# EAGLE library part LTC4415 (library SHC)
The LTC4415 consists of two PowerPath ideal diode circuits within a single package. Each diode in the LTC4415 is capable of supplying a maximum rated output current of 4A from its input supply with typical forward conduction resistance of 50mΩ. The diodes are enabled using level-sensitive enable inputs EN1 and EN2 with opposite polarity to achieve a prioritizer function with minimal quiescent current during diode-OR implementation. The enable threshold on the enable pins (VENTH) is 800mV (typical) with one-sided hysteresis of 55mV (typical). For rising voltage on the EN1 pin, Diode 1 is enabled when VEN1 > 800mV (typical), and on the falling edge it is disabled when VEN1 < 745mV (typical). For falling voltage on the EN2 pin, Diode 2 is enabled when VEN2 < 800mV (typical), and on the rising edge it is disabled when VEN1 > 855mV (typical). EN1 or EN2 pin voltages should not exceed the highest voltage on the input (IN1, IN2) or output (OUT1, OUT2) pins
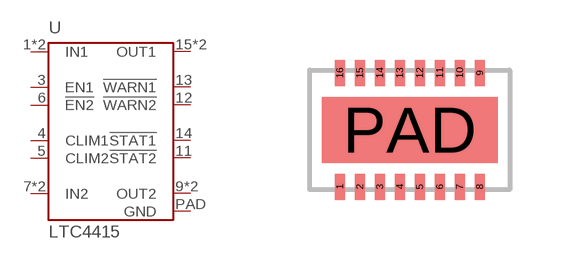
[diagram p34: symbol with the pads of DFN-16_A; footprint DFN-16_A]

Designator prefix -

## LTC4415  [DFN-16_A]
1  IN1
2  IN1
3  EN1
4  CLIM1
5  CLIM2
6  !EN2
7  IN2
8  IN2
9  OUT2
10  OUT2
11  !STAT2
12  !WARN2
13  !WARN1
14  !STAT1
15  OUT1
16  OUT1
PAD  GND

## Footprint DFN-16_A (pad centres in mm)
smd 0.25 x 0.65: 1 -1.75,-1.425; 2 -1.25,-1.425; 3 -0.75,-1.425; 4 -0.25,-1.425; 5 0.25,-1.425; 6 0.75,-1.425; 7 1.25,-1.425; 8 1.75,-1.425; 9 1.75,1.425; 10 1.25,1.425; 11 0.75,1.425; 12 0.25,1.425; 13 -0.25,1.425; 14 -0.75,1.425; 15 -1.25,1.425; 16 -1.75,1.425
smd 4.4 x 1.65: PAD 0,0